# EAGLE library part LTC4365 (library LTC4365)
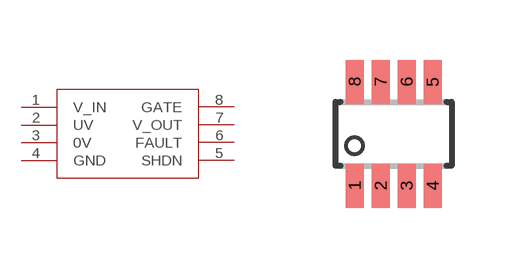
[diagram p0: symbol with the pads of SOT23-8; footprint SOT23-8]

Designator prefix -

## LTC4365  [SOT23-8]
1  V_IN
2  UV
3  0V
4  GND
5  SHDN
6  FAULT
7  V_OUT
8  GATE

## Footprint SOT23-8 (pad centres in mm)
SOT-23-8 Plastic Small Outline (DCN) - 8-Lead Package Source: http://www.ti.com/lit/ds/symlink/tlv3501.pdf
smd 0.45 x 1.1: 1 -0.975,-1.3; 2 -0.325,-1.3; 3 0.325,-1.3; 4 0.975,-1.3; 5 0.975,1.3; 6 0.325,1.3; 7 -0.325,1.3; 8 -0.975,1.3